# Altium footprint library SOT23-5P95_280X145L45X40N.PcbLib: 1 footprints
Each footprint in its own frame and in the unit in brackets; x right, y up, seen from the top. Pads: shape width x height; smd on the part's side, far side on the other; paste and mask are expansions set on the pad; w line width, h text height; cw(c..) or ccw(c..) is an arc to the next point about the centre after c.
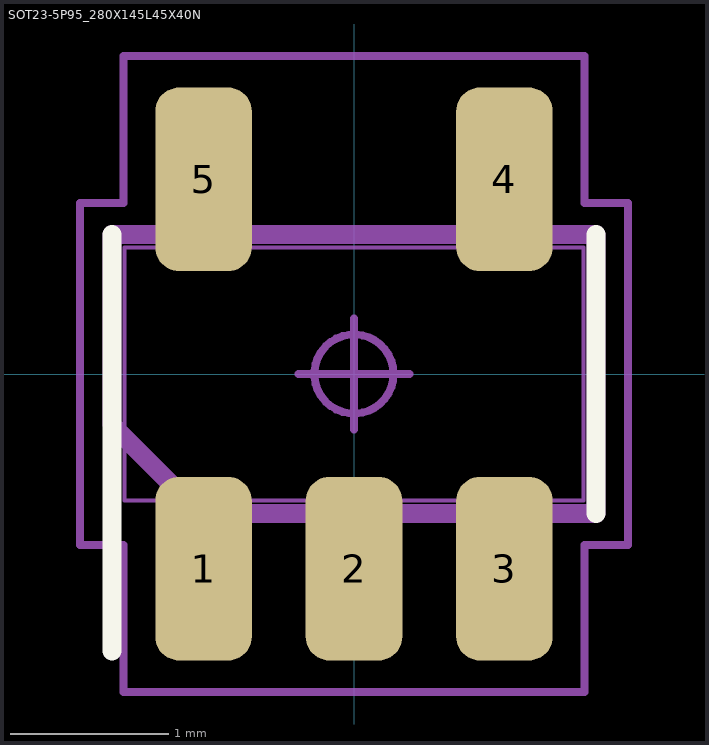
[diagram p0: the footprint, top view; thin cyan lines are the x and y axes]

## SOT23-5P95_280X145L45X40N [mm] "Small Outline Transistor (SOT23), 0.95 mm pitch; 5 pin, 2.90 mm L X 1.60 mm W X 1.45 mm H body"
height 1.45
pads (5):
  rrect49% 0.61x1.16 smd: 1(-0.95,-1.23) 2(0,-1.23) 3(0.95,-1.23) 4(0.95,1.23) 5(-0.95,1.23)
Top Overlay:
  lines w0.12: -1.53,-1.75 -1.53,-0.88 -1.53,0.88 ; 1.53,-0.88 1.53,0.88
Mechanical 3:
  lines w0.12: -1.53,-0.32 -1.53,0.88 1.53,0.88 1.53,-0.88 -0.97,-0.88 -1.53,-0.32
Mechanical 5:
  lines w0.025: -1.45,-0.8 1.45,-0.8 1.45,0.8 -1.45,0.8 -1.45,-0.8 ; -1.15,-1.4 -1.15,-0.95 -0.75,-0.95 -0.75,-1.4 -1.15,-1.4 ; -1.15,0.95 -1.15,1.4 -0.75,1.4 -0.75,0.95 -1.15,0.95 ; -0.2,-1.4 -0.2,-0.95 0.2,-0.95 0.2,-1.4 -0.2,-1.4 ; 0.75,-1.4 0.75,-0.95 1.15,-0.95 1.15,-1.4 0.75,-1.4 ; 0.75,0.95 0.75,1.4 1.15,1.4 1.15,0.95 0.75,0.95
Mechanical 7:
  circle w0.05: c0,0 r0.25
  lines w0.05: -0.35,0 0.35,0 ; 0,-0.35 0,0.35 ; -1.73,-1.08 -1.455,-1.08 -1.455,-2.01 1.455,-2.01 1.455,-1.08 1.73,-1.08 1.73,1.08 1.455,1.08 1.455,2.01 -1.455,2.01 -1.455,1.08 -1.73,1.08 -1.73,-1.08
Mechanical 9:
  text "'.Designator'" at -5.205,-0.204 h1
3D body: height 1, standoff 0, extent -1.725,-2 1.725,2
3D body "SOT23-5P95_280X145L45X40.STEP": height 1.45, standoff 0, extent -1.45,-1.4 1.45,1.4
3D body: height 1.04, standoff 0, extent -1.73,-2.01 1.73,2.01